# Altium footprint library SnapEDApcb.PcbLib: 1 footprints
Each footprint in its own frame and in the unit in brackets; x right, y up, seen from the top. Pads: shape width x height; smd on the part's side, far side on the other; paste and mask are expansions set on the pad; w line width, h text height; cw(c..) or ccw(c..) is an arc to the next point about the centre after c.
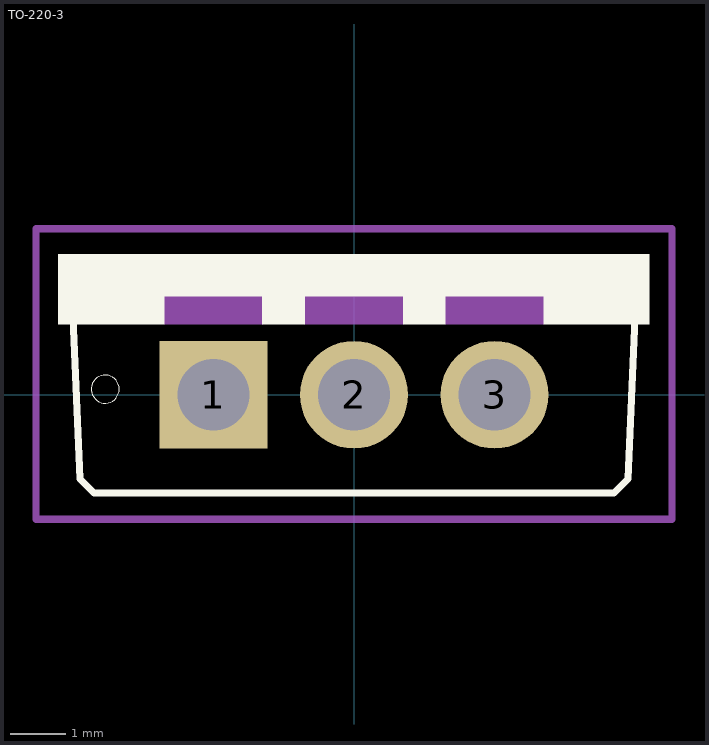
[diagram p0: the footprint, top view; thin cyan lines are the x and y axes]

## TO-220-3 [mm]
pads (3):
  rect 1.95x1.95 hole 1.3: 1(-2.54,0)
  round 1.95 hole 1.3: 2(0,0) 3(2.54,0)
Top Overlay:
  circle w0: c-4.496,0.102 r0.254
  region: 5.334,1.781 -5.344,1.781 -5.344,2.54 5.334,2.54
  region: -3.429,1.272 -5.344,1.272 -5.344,1.778 -3.429,1.778
  region: -0.889,1.272 -1.654,1.272 -1.654,1.778 -0.889,1.778
  region: 1.651,1.271 0.89,1.271 0.89,1.778 1.651,1.778
  region: 5.334,1.272 3.433,1.272 3.433,1.778 5.334,1.778
  lines w0.127: -5.08,1.397 -4.953,-1.524 -4.699,-1.778 4.699,-1.778 4.953,-1.524 5.08,1.397
Mechanical 13:
  region: -1.651,1.271 -3.432,1.271 -3.432,1.778 -1.651,1.778
  region: 0.889,1.271 -0.889,1.271 -0.889,1.778 0.889,1.778
  region: 3.429,1.272 1.653,1.272 1.653,1.778 3.429,1.778
Mechanical 15:
  lines w0.127: -5.75,-2.25 5.75,-2.25 5.75,3 -5.75,3 -5.75,-2.25